# EAGLE library part XH_CONNECTOR (library XH12_connector)
XH-12 connector
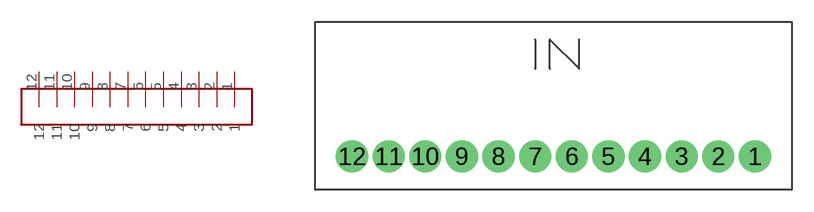
[diagram p0: symbol with the pads of XH_CONNECTOR; footprint XH_CONNECTOR]

Designator prefix XH_12_CONNECTOR

## XH_CONNECTOR  [XH_CONNECTOR]
1  1
2  2
3  3
4  4
5  5
6  6
7  7
8  8
9  9
10  10
11  11
12  12

## Footprint XH_CONNECTOR (pad centres in mm)
drill 0.9 pad 2.2: 1 0,0; 2 -2.5,0; 3 -5,0; 4 -7.5,0; 5 -10,0; 6 -12.5,0; 7 -15,0; 8 -17.5,0; 9 -20,0; 10 -22.5,0; 11 -25,0; 12 -27.5,0